# Altium schematic symbol library D_SHKY.Schlib: 1 symbol
Pins are listed as number, name and electrical type; pins without a type are passive.

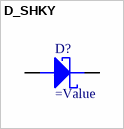
[diagram p0: symbol D_SHKY]

## D_SHKY
designator D?
Diode, Schottky
pins: A, C